# Altium footprint library custom-lib.PcbLib: 1 footprints
Each footprint in its own frame and in the unit in brackets; x right, y up, seen from the top. Pads: shape width x height; smd on the part's side, far side on the other; paste and mask are expansions set on the pad; w line width, h text height; cw(c..) or ccw(c..) is an arc to the next point about the centre after c.
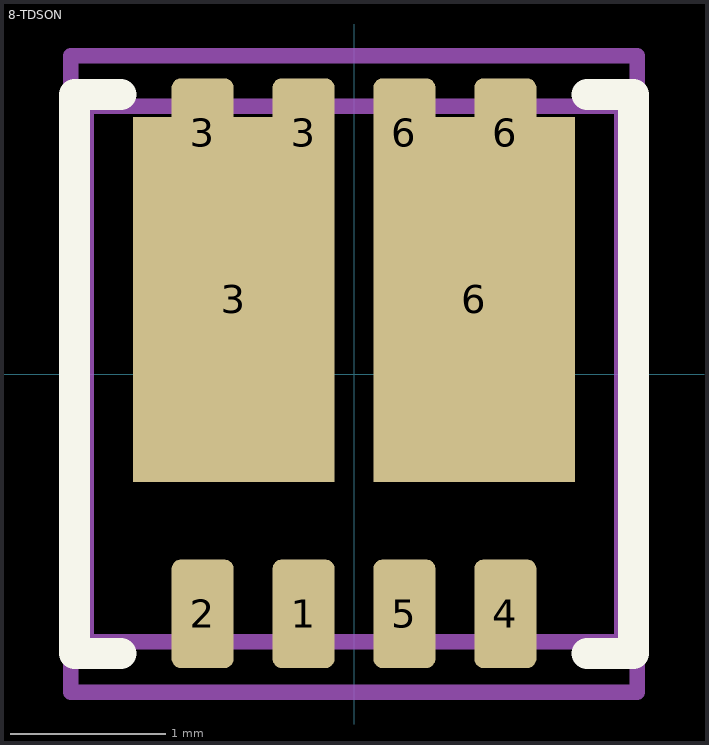
[diagram p0: the footprint, top view; thin cyan lines are the x and y axes]

## 8-TDSON [mm] "pitch 1.3 mm, power pad"
height 1
pads (10):
  rrect30% 0.4x0.7 smd mask+0.102: 1(-0.325,-1.545) 2(-0.975,-1.545) 3(-0.975,1.555) 3(-0.325,1.555) 4(0.975,-1.545) 5(0.325,-1.545) 6(0.325,1.555) 6(0.975,1.555)
  rect 1.3x2.35 smd mask+0.102: 3(-0.775,0.48) 6(0.775,0.48)
Top Overlay:
  lines w0.2: -1.5,-1.8 -1.8,-1.8 -1.8,1.8 -1.5,1.8 ; 1.5,-1.8 1.8,-1.8 1.8,1.8 1.5,1.8
Mechanical 1:
  lines w0.1: -1.725,-1.725 1.725,-1.725 1.725,1.725 -1.725,1.725 -1.725,-1.725
Mechanical 15:
  lines w0.1: -1.825,-2.05 1.825,-2.05 1.825,2.05 -1.825,2.05 -1.825,-2.05
3D body "User Library-PDFN33.STEP": height 0.8, standoff -0.02, extent -1.725,-1.72 1.725,1.73